# Altium schematic symbol library Connectors Jumper 2.54.SchLib: 3 symbols
Pins are listed as number, name and electrical type; pins without a type are passive.

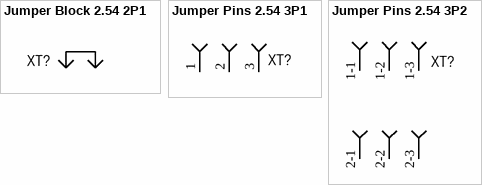
[diagram p0: symbols Jumper Block 2.54 2P1 to Jumper Pins 2.54 3P2]

## Jumper Block 2.54 2P1
designator XT?, comment QPC02SXGN-RC  (value not drawn)
Connector Jumper Block 2.54 2P1; Manufacturer: Sullins Connector Solutions; Group: Mechanical; Pitch: 2.54mm; Positions: 2; Rows: 1; Current rating: 3.0A; Voltage rating: 250V; Placing: Vertical; Shrouding: Open top; Connector style: Socket; Dimension: 4.98mm x 2.45mm; Operating temperature: -40°C +105°C; Mounting type: Put on pins; Package: Jumper Block 2.54 2P1 Open top; Part name: QPC02SXGN-RC; Height: 5.98mm; Insulation color: Black; Component: Connector Jumper; Contact type: Female socket; Fastening type: Push-Pull; Connector type: Socket; Series: Jumper block; Series name: Jumper block; System: Connector
footprint Jumper Block 2.54 2P1 Open top

## Jumper Pins 2.54 3P1
designator XT?, comment 61300311121  (value not drawn)
Connector Jumper Pins 2.54 3P1; Manufacturer: Wurth Electronics; Group: Mechanical; Pitch: 2.54mm; Positions: 3; Rows: 1; Current rating: 3.0A; Voltage rating: 250V; Placing: Vertical; Shrouding: Unshrouded; Connector style: Board; Connector type: Header; Series name: PLS; Dimension: 7.62mm x 2.54mm; Operating temperature: -40°C +125°C; Mounting type: Through hole; Package: Jumper Pins 2.54 3P1; Part name: 61300311121; Height: 8.64mm; Insulation color: Black; Component: Connector Jumper; Contact type: Male pin; Fastening type: Push-Pull; Series: PLS; System: Connector
footprint Jumper Pins 2.54 3P1
pins: 1, 2, 3

## Jumper Pins 2.54 3P2
designator XT?, comment 61300311121  (value not drawn)
Connector Jumper Pins 2.54 3P2; Manufacturer: Wurth Electronics; Group: Mechanical; Pitch: 2.54mm; Positions: 3; Rows: 1; Current rating: 3.0A; Voltage rating: 250V; Placing: Vertical; Shrouding: Unshrouded; Connector style: Board; Connector type: Header; Series name: PLS; Dimension: 7.62mm x 2.54mm; Operating temperature: -40°C +125°C; Mounting type: Through hole; Package: Jumper Pins 2.54 3P1; Part name: 61300311121; Height: 8.64mm; Insulation color: Black; Component: Connector Jumper; Contact type: Male pin; Fastening type: Push-Pull; Series: PLS; System: Connector
footprint Jumper Pins 2.54 3P2 (Footprint not found)
pins: 1-1, 1-2, 1-3, 2-1, 2-2, 2-3